# Altium integrated library C320C104M1U5TA.IntLib: 1 symbol
Pins are listed as number, name and electrical type; pins without a type are passive.

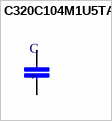
[diagram p0: symbol C320C104M1U5TA]

## C320C104M1U5TA
designator C
0.1ÂµF Â±20% 100V Ceramic Capacitor Z5U Radial; MF: KEMET; MP: C320C104M1U5TA; SnapEDA_Link: https://www.snapeda.com/parts/C320C104M1U5TA/KEMET/view-part/546418/?ref=snap; Price: None; Value: *; Availability: Unavailable; Package: Radial Kemet
footprint LEADED_DECOUPLING_CAP(.1)
pins: 1, 2